# EAGLE library part FPC_30-PINS (library XP9300)
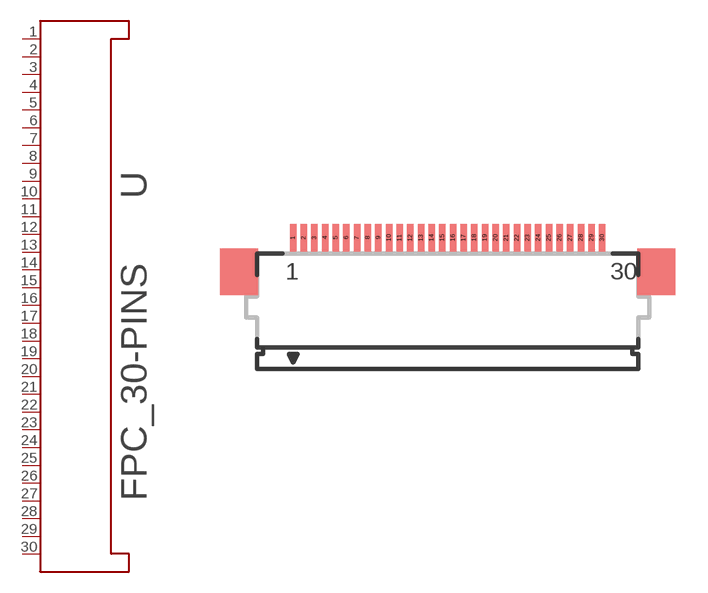
[diagram p6: symbol with the pads of FH12-30S-0.5SH; footprint FH12-30S-0.5SH]

Designator prefix -

## FPC_30-PINS  [FH12-30S-0.5SH]
1  P$1
2  P$2
3  P$3
4  P$4
5  P$5
6  P$6
7  P$7
8  P$8
9  P$9
10  P$10
11  P$11
12  P$12
13  P$13
14  P$14
15  P$15
16  P$16
17  P$17
18  P$18
19  P$19
20  P$20
21  P$21
22  P$22
23  P$23
24  P$24
25  P$25
26  P$26
27  P$27
28  P$28
29  P$29
30  P$30

## Footprint FH12-30S-0.5SH (pad centres in mm)
0.5mm Pitch Connectors For FPC/FFC Source: Data sheet <http://www.hirose.co.jp/cataloge_hp/e58605370.pdf>
smd 0.3 x 1.3: 1 -7.02,2.66; 2 -6.52,2.66; 3 -6.02,2.66; 4 -5.52,2.66; 5 -5.02,2.66; 6 -4.52,2.66; 7 -4.02,2.66; 8 -3.52,2.66; 9 -3.02,2.66; 10 -2.52,2.66; 11 -2.02,2.66; 12 -1.52,2.66; 13 -1.02,2.66; 14 -0.52,2.66; 15 -0.02,2.66; 16 0.48,2.66; 17 0.98,2.66; 18 1.48,2.66; 19 1.98,2.66; 20 2.48,2.66; 21 2.98,2.66; 22 3.48,2.66; 23 3.98,2.66; 24 4.48,2.66; 25 4.98,2.66; 26 5.48,2.66; 27 5.98,2.66; 28 6.48,2.66; 29 6.98,2.66; 30 7.48,2.66